# EAGLE library part HTSSOPDAP38 (library TLC5951_DAP38)
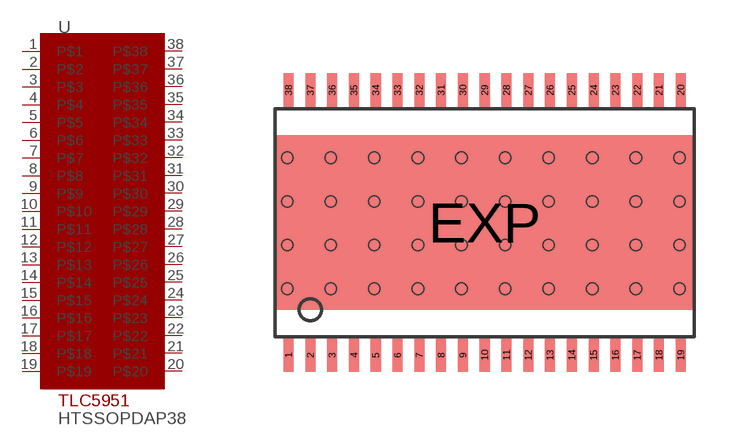
[diagram p0: symbol with the pads of HTSSOPDAP38; footprint HTSSOPDAP38]

Designator prefix -

## HTSSOPDAP38  [HTSSOPDAP38]
1  P$1  in
2  P$2  in
3  P$3  in
4  P$4  in
5  P$5  in
6  P$6  in
7  P$7  out
8  P$8  out
9  P$9  out
10  P$10  out
11  P$11  out
12  P$12  out
13  P$13  out
14  P$14  out
15  P$15  out
16  P$16  out
17  P$17  out
18  P$18  out
19  P$19  out
20  P$20  out
21  P$21  out
22  P$22  out
23  P$23  out
24  P$24  out
25  P$25  out
26  P$26  out
27  P$27  out
28  P$28  out
29  P$29  out
30  P$30  out
31  P$31  out
32  P$32  out
33  P$33  in
34  P$34  in
35  P$35  in
36  P$36  in
37  P$37  in
38  P$38  in

## Footprint HTSSOPDAP38 (pad centres in mm)
Using the HTSSOP 38 pin DAP already available with EAGLE and associating this package with a schematic I created.
smd 0.3 x 1: 1 3.04,3.67; 2 3.69,3.67; 3 4.34,3.67; 4 4.99,3.67; 5 5.64,3.67; 6 6.29,3.67; 7 6.94,3.67; 8 7.59,3.67; 9 8.24,3.67; 10 8.89,3.67; 11 9.54,3.67; 12 10.19,3.67; 13 10.84,3.67; 14 11.49,3.67; 15 12.14,3.67; 16 12.79,3.67; 17 13.44,3.67; 18 14.09,3.67; 19 14.74,3.67; 20 14.74,11.57; 21 14.09,11.57; 22 13.44,11.57; 23 12.79,11.57; 24 12.14,11.57; 25 11.49,11.57; 26 10.84,11.57; 27 10.19,11.57; 28 9.54,11.57; 29 8.89,11.57; 30 8.24,11.57; 31 7.59,11.57; 32 6.94,11.57; 33 6.29,11.57; 34 5.64,11.57; 35 4.99,11.57; 36 4.34,11.57; 37 3.69,11.57; 38 3.04,11.57
smd 12.5 x 5.2: EXP 8.89,7.62
hole 0.33 at 3,5.65
hole 0.33 at 4.3,5.65
hole 0.33 at 3,6.95
hole 0.33 at 4.3,6.95
hole 0.33 at 3,8.25
hole 0.33 at 4.3,8.25
hole 0.33 at 3,9.55
hole 0.33 at 4.3,9.55
hole 0.33 at 5.6,5.65
hole 0.33 at 6.9,5.65
hole 0.33 at 5.6,6.95
hole 0.33 at 6.9,6.95
hole 0.33 at 5.6,8.25
hole 0.33 at 6.9,8.25
hole 0.33 at 5.6,9.55
hole 0.33 at 6.9,9.55
hole 0.33 at 8.2,5.65
hole 0.33 at 9.5,5.65
hole 0.33 at 8.2,6.95
hole 0.33 at 9.5,6.95
hole 0.33 at 8.2,8.25
hole 0.33 at 9.5,8.25
hole 0.33 at 8.2,9.55
hole 0.33 at 9.5,9.55
hole 0.33 at 10.8,5.65
hole 0.33 at 12.1,5.65
hole 0.33 at 10.8,6.95
hole 0.33 at 12.1,6.95
hole 0.33 at 10.8,8.25
hole 0.33 at 12.1,8.25
hole 0.33 at 10.8,9.55
hole 0.33 at 12.1,9.55
hole 0.33 at 13.4,5.65
hole 0.33 at 14.7,5.65
hole 0.33 at 13.4,6.95
hole 0.33 at 14.7,6.95
hole 0.33 at 13.4,8.25
hole 0.33 at 14.7,8.25
hole 0.33 at 13.4,9.55
hole 0.33 at 14.7,9.55